# Altium footprint library SmartCoin.PcbLib: 18 footprints (part 1 of 2)
Each footprint in its own frame and in the unit in brackets; x right, y up, seen from the top. Pads: shape width x height; smd on the part's side, far side on the other; paste and mask are expansions set on the pad; w line width, h text height; cw(c..) or ccw(c..) is an arc to the next point about the centre after c.
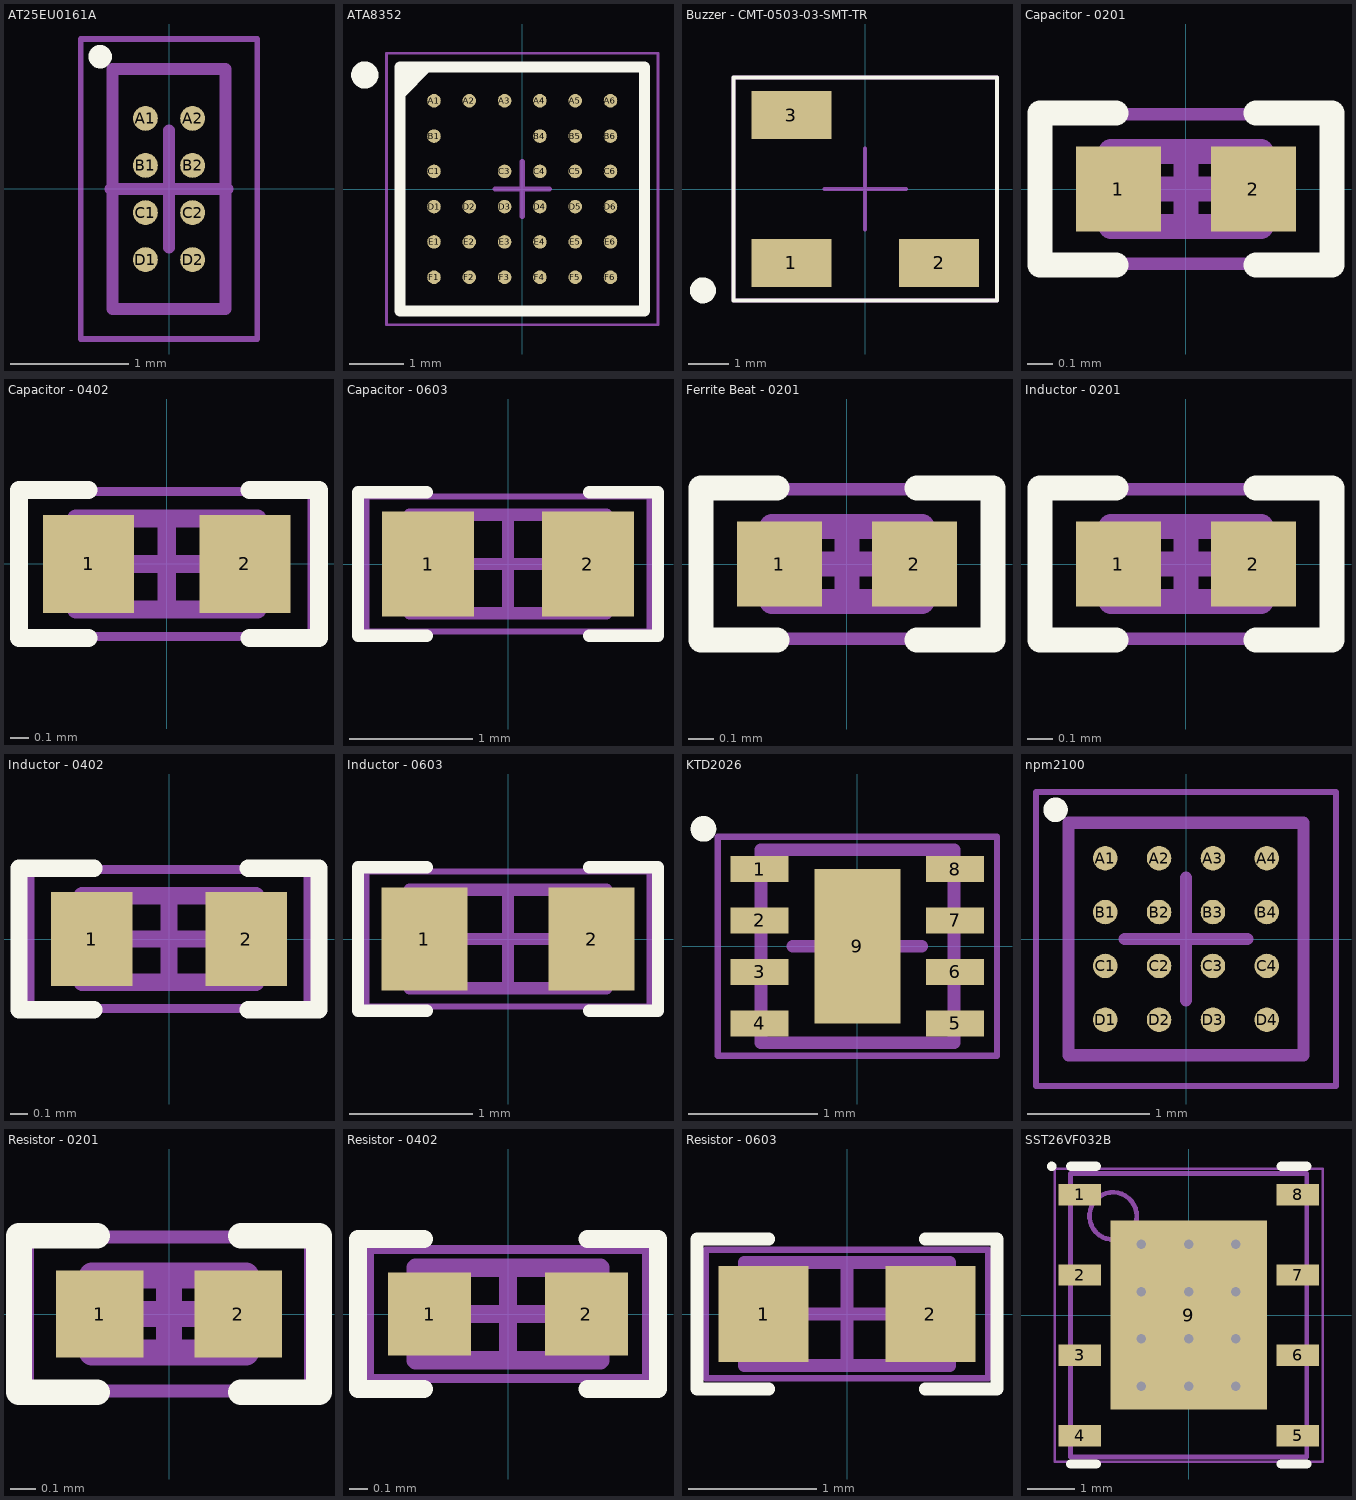
[diagram p0: the footprints below, top view; thin cyan lines are the x and y axes]

## AT25EU0161A [mm] "16-Mbit, Ultra-Low Energy Serial Flash Memory"
height 0.48
pads (8):
  round 0.21 smd: A1(-0.2,0.6) A2(0.2,0.6) B1(-0.2,0.2) B2(0.2,0.2) C1(-0.2,-0.2) C2(0.2,-0.2) D1(-0.2,-0.6) D2(0.2,-0.6)
Top Overlay:
  circle w0.1: c-0.585,1.125 r0.05
Top Courtyard:
  lines w0.05: -0.75,-1.275 0.75,-1.275 0.75,1.275 -0.75,1.275 -0.75,-1.275
  lines w0.1: -0.5,0 0.5,0 ; 0,-0.5 0,0.5
Mechanical 13:
  lines w0.1: -0.48,-1.02 0.48,-1.02 0.48,1.02 -0.48,1.02 -0.48,-1.02
3D body "AT25EU0161A.step": height 0.48, standoff 0, extent -0.48,-1.02 0.48,1.02

## ATA8352 [mm] "ATA8352 Transceiver"
height 1.1
pads (33):
  round 0.25 smd: A1(-1.625,1.625) A2(-0.975,1.625) A3(-0.325,1.625) A4(0.325,1.625) A5(0.975,1.625) A6(1.625,1.625) B1(-1.625,0.975) B4(0.325,0.975) B5(0.975,0.975) B6(1.625,0.975) C1(-1.625,0.325) C3(-0.325,0.325) C4(0.325,0.325) C5(0.975,0.325) C6(1.625,0.325) D1(-1.625,-0.325) D2(-0.975,-0.325) D3(-0.325,-0.325) D4(0.325,-0.325) D5(0.975,-0.325) D6(1.625,-0.325) E1(-1.625,-0.975) E2(-0.975,-0.975) E3(-0.325,-0.975) E4(0.325,-0.975) E5(0.975,-0.975) E6(1.625,-0.975) F1(-1.625,-1.625) F2(-0.975,-1.625) F3(-0.325,-1.625) F4(0.325,-1.625) F5(0.975,-1.625) F6(1.625,-1.625)
Top Overlay:
  circle w0.25: c-2.9,2.1 r0.125
  region: -1.75,2.25 -2.25,1.75 -2.25,2.25
  lines w0.2: -2.25,1.75 -1.75,2.25 ; -2.25,-2.25 -2.25,2.25 2.25,2.25 2.25,-2.25 -2.25,-2.25
Top Courtyard:
  lines w0.05: -2.5,-2.5 -2.5,2.5 2.5,2.5 2.5,-2.5 -2.5,-2.5
  lines w0.1: -0.5,0 0.5,0 ; 0,-0.5 0,0.5
Mechanical 13:
  lines w0.1: -2.25,-2.25 -2.25,2.25 2.25,2.25 2.25,-2.25 -2.25,-2.25
3D body: height 1.1, standoff 0.27, extent -2.25,-2.25 2.25,2.25

## Buzzer - CMT-0503-03-SMT-TR [mm]
pads (3):
  rect 2x1.2 smd: 1(-1.85,-1.85) 2(1.85,-1.85) 3(-1.85,1.85)
Top Overlay:
  circle w0.35: c-4.064,-2.54 r0.15
  lines w0.1: -3.302,-2.794 3.302,-2.794 3.302,2.794 -3.302,2.794 -3.302,-2.794
Top Courtyard:
  lines w0.1: -3.302,-2.794 3.302,-2.794 3.302,2.794 -3.302,2.794 -3.302,-2.794
Top Component Center:
  lines w0.1: -1.016,0 1.016,0 ; 0,-1.016 0,1.016
Top Component Outline:
  lines w0.1: -3.302,-2.794 3.302,-2.794 3.302,2.794 -3.302,2.794 -3.302,-2.794
3D body "Buzzer CMT-0503-03-SMT-TR v1.step": height 3.1, standoff 0, extent -2.5,-2.5 2.5,2.5

## Capacitor - 0201 [mm] "Chip Capacitor, 2-Leads, Body 0,60x0,30mm, IPC High Density"
height 0.3
pads (2):
  rect 0.34x0.34 smd mask+0.025: 1(-0.27,0) 2(0.27,0)
Top Overlay:
  lines w0.1: -0.279,-0.305 -0.584,-0.305 -0.584,0.305 -0.279,0.305 ; 0.279,-0.305 0.584,-0.305 0.584,0.305 0.279,0.305
Top Courtyard:
  lines w0.05: -0.6,-0.3 0.6,-0.3 0.6,0.3 -0.6,0.3 -0.6,-0.3
Top Component Center:
  lines w0.1: -0.15,0 0.15,0 ; 0,-0.15 0,0.15
Mechanical 13:
  lines w0.1: -0.3,-0.15 0.3,-0.15 0.3,0.15 -0.3,0.15 -0.3,-0.15
3D body "Capacitor - 0201.step": height 0.3, standoff 0, extent -0.3,-0.15 0.3,0.15

## Capacitor - 0402 [mm] "Chip Capacitor, 2-Leads, Body 1,00x0,50mm, IPC High Density"
height 0.3
pads (2):
  rect 0.5x0.54 smd mask+0.076: 1(-0.43,0) 2(0.43,0)
Top Overlay:
  lines w0.1: -0.432,-0.406 -0.813,-0.406 -0.813,0.406 -0.432,0.406 ; 0.457,-0.406 0.838,-0.406 0.838,0.406 0.457,0.406
Top Courtyard:
  lines w0.05: -0.8,-0.4 -0.8,0.4 0.8,0.4 0.8,-0.4 -0.8,-0.4
Top Component Center:
  lines w0.1: -0.25,0 0.25,0 ; 0,-0.25 0,0.25
Mechanical 13:
  lines w0.1: -0.5,-0.25 -0.5,0.25 0.5,0.25 0.5,-0.25 -0.5,-0.25
3D body "Capacitor - 0402.step": height 0.3, standoff 0, extent -0.5,-0.25 0.5,0.25

## Capacitor - 0603 [mm] "Chip Capacitor, 2-Leads, Body 1,60x0,80mm, IPC High Density"
height 0.5
pads (2):
  rect 0.75x0.85 smd: 1(-0.65,0) 2(0.65,0)
Top Overlay:
  lines w0.1: -0.66,-0.584 -1.219,-0.584 -1.219,0.584 -0.66,0.584 ; 0.66,-0.584 1.219,-0.584 1.219,0.584 0.66,0.584
Top Courtyard:
  lines w0.05: -1.15,-0.55 1.15,-0.55 1.15,0.55 -1.15,0.55 -1.15,-0.55
Top Component Center:
  lines w0.1: -0.4,0 0.4,0 ; 0,-0.4 0,0.4
Mechanical 13:
  lines w0.1: -0.8,-0.4 0.8,-0.4 0.8,0.4 -0.8,0.4 -0.8,-0.4
3D body "Capacitor - 0603.step": height 0.5, standoff 0, extent -0.8,-0.4 0.8,0.4

## Ferrite Beat - 0201 [mm] "Chip Inductor, 2-Leads, Body 0,60x0,30mm, IPC High Density"
height 0.3
pads (2):
  rect 0.34x0.34 smd mask+0.025: 1(-0.27,0) 2(0.27,0)
Top Overlay:
  lines w0.1: -0.279,-0.305 -0.584,-0.305 -0.584,0.305 -0.279,0.305 ; 0.279,-0.305 0.584,-0.305 0.584,0.305 0.279,0.305
Top Courtyard:
  lines w0.05: -0.6,-0.3 -0.6,0.3 0.6,0.3 0.6,-0.3 -0.6,-0.3
Top Component Center:
  lines w0.1: -0.15,0 0.15,0 ; 0,-0.15 0,0.15
Mechanical 13:
  lines w0.1: -0.3,-0.15 -0.3,0.15 0.3,0.15 0.3,-0.15 -0.3,-0.15
3D body "Inductor - 0201.step": height 0.3, standoff 0, extent -0.3,-0.15 0.3,0.15

## Inductor - 0201 [mm] "Chip Inductor, 2-Leads, Body 0,60x0,30mm, IPC High Density"
height 0.3
pads (2):
  rect 0.34x0.34 smd mask+0.025: 1(-0.27,0) 2(0.27,0)
Top Overlay:
  lines w0.1: -0.279,-0.305 -0.584,-0.305 -0.584,0.305 -0.279,0.305 ; 0.279,-0.305 0.584,-0.305 0.584,0.305 0.279,0.305
Top Courtyard:
  lines w0.05: -0.6,-0.3 -0.6,0.3 0.6,0.3 0.6,-0.3 -0.6,-0.3
Top Component Center:
  lines w0.1: -0.15,0 0.15,0 ; 0,-0.15 0,0.15
Mechanical 13:
  lines w0.1: -0.3,-0.15 -0.3,0.15 0.3,0.15 0.3,-0.15 -0.3,-0.15
3D body "Inductor - 0201.step": height 0.3, standoff 0, extent -0.3,-0.15 0.3,0.15

## Inductor - 0402 [mm] "Chip Inductor, 2-Leads, Body 1,00x0,50mm, IPC High Density"
height 0.3
pads (2):
  rect 0.47x0.54 smd mask+0.076: 1(-0.445,0) 2(0.445,0)
Top Overlay:
  lines w0.1: -0.432,-0.406 -0.864,-0.406 -0.864,0.406 -0.432,0.406 ; 0.457,-0.406 0.864,-0.406 0.864,0.406 0.457,0.406
Top Courtyard:
  lines w0.05: -0.8,-0.4 -0.8,0.4 0.8,0.4 0.8,-0.4 -0.8,-0.4
Top Component Center:
  lines w0.1: -0.25,0 0.25,0 ; 0,-0.25 0,0.25
Mechanical 13:
  lines w0.1: -0.5,-0.25 -0.5,0.25 0.5,0.25 0.5,-0.25 -0.5,-0.25
3D body "Inductor - 0402.step": height 0.3, standoff 0, extent -0.5,-0.25 0.5,0.25

## Inductor - 0603 [mm] "Chip Inductor, 2-Leads, Body 1,60x0,80mm, IPC High Density"
height 0.5
pads (2):
  rect 0.7x0.84 smd: 1(-0.68,0) 2(0.68,0)
Top Overlay:
  lines w0.1: -0.66,-0.584 -1.219,-0.584 -1.219,0.584 -0.66,0.584 ; 0.66,-0.584 1.219,-0.584 1.219,0.584 0.66,0.584
Top Courtyard:
  lines w0.05: -1.15,-0.55 1.15,-0.55 1.15,0.55 -1.15,0.55 -1.15,-0.55
Top Component Center:
  lines w0.1: -0.4,0 0.4,0 ; 0,-0.4 0,0.4
Mechanical 13:
  lines w0.1: -0.8,-0.4 0.8,-0.4 0.8,0.4 -0.8,0.4 -0.8,-0.4
3D body "Inductor - 0603.step": height 0.5, standoff 0, extent -0.8,-0.4 0.8,0.4

## KTD2026 [mm] "3-CHANNEL Rgb Led Driver With I2C"
height 0.55
pads (9):
  rect 0.45x0.2 smd: 1(-0.76,0.6) 2(-0.76,0.2) 3(-0.76,-0.2) 4(-0.76,-0.6) 5(0.76,-0.6) 6(0.76,-0.2) 7(0.76,0.2) 8(0.76,0.6)
  rect 0.67x1.2 smd: 9(0,0)
Top Overlay:
  circle w0.1: c-1.197,0.912 r0.05
Top Courtyard:
  lines w0.05: -1.085,-0.85 1.085,-0.85 1.085,0.85 -1.085,0.85 -1.085,-0.85
Top Component Center:
  lines w0.1: -0.5,0 0.5,0 ; 0,-0.5 0,0.5
Mechanical 13:
  lines w0.1: -0.75,-0.75 0.75,-0.75 0.75,0.75 -0.75,0.75 -0.75,-0.75
3D body "KTD2026.step": height 0.55, standoff 0, extent -0.77,-0.75 0.77,0.75

## npm2100 [mm] "Power Management IC (PMIC)"
height 0.53
pads (16):
  round 0.2 smd: A1(-0.66,0.66) A2(-0.22,0.66) A3(0.22,0.66) A4(0.66,0.66) B1(-0.66,0.22) B2(-0.22,0.22) B3(0.22,0.22) B4(0.66,0.22) C1(-0.66,-0.22) C2(-0.22,-0.22) C3(0.22,-0.22) C4(0.66,-0.22) D1(-0.66,-0.66) D2(-0.22,-0.66) D3(0.22,-0.66) D4(0.66,-0.66)
Top Overlay:
  circle w0.1: c-1.065,1.055 r0.05
Top Courtyard:
  lines w0.05: -1.225,-1.2 -1.225,1.2 1.225,1.2 1.225,-1.2 -1.225,-1.2
Top Component Center:
  lines w0.1: -0.5,0 0.5,0 ; 0,-0.5 0,0.5
Mechanical 13:
  lines w0.1: -0.96,-0.95 -0.96,0.95 0.96,0.95 0.96,-0.95 -0.96,-0.95
3D body "npm2100.step": height 0.52, standoff 0, extent -0.96,-0.95 0.96,0.95

## Resistor - 0201 [mm] "Chip Resistor, 2-Leads, Body 0,60x0,30mm, IPC High Density"
height 0.3
pads (2):
  rect 0.34x0.34 smd mask+0.025: 1(-0.27,0) 2(0.27,0)
Top Overlay:
  lines w0.1: -0.279,-0.305 -0.584,-0.305 -0.584,0.305 -0.279,0.305 ; 0.279,-0.305 0.584,-0.305 0.584,0.305 0.279,0.305
Top Courtyard:
  lines w0.05: -0.55,-0.3 -0.55,0.3 0.55,0.3 0.55,-0.3 -0.55,-0.3
Top Component Center:
  lines w0.1: -0.15,0 0.15,0 ; 0,-0.15 0,0.15
Mechanical 13:
  lines w0.1: -0.3,-0.15 -0.3,0.15 0.3,0.15 0.3,-0.15 -0.3,-0.15
3D body "Resistor - 0201.step": height 0.3, standoff 0, extent -0.3,-0.15 0.3,0.15

## Resistor - 0402 [mm] "Chip Resistor, 2-Leads, Body 1,00x0,50mm, IPC High Density"
height 0.3
pads (2):
  rect 0.45x0.45 smd mask+0.076: 1(-0.425,0) 2(0.425,0)
Top Overlay:
  lines w0.1: -0.457,-0.406 -0.813,-0.406 -0.813,0.406 -0.457,0.406 ; 0.432,-0.406 0.813,-0.406 0.813,0.406 0.432,0.406
Top Courtyard:
  lines w0.05: -0.75,-0.35 0.75,-0.35 0.75,0.35 -0.75,0.35 -0.75,-0.35
Top Component Center:
  lines w0.1: -0.25,0 0.25,0 ; 0,-0.25 0,0.25
Mechanical 13:
  lines w0.1: -0.5,-0.25 0.5,-0.25 0.5,0.25 -0.5,0.25 -0.5,-0.25
3D body "Resistor - 0402.step": height 0.3, standoff 0, extent -0.5,-0.25 0.5,0.25

## Resistor - 0603 [mm] "Chip Resistor, 2-Leads, Body 1,60x0,80mm, IPC High Density"
height 0.5
pads (2):
  rect 0.7x0.75 smd: 1(-0.65,0) 2(0.65,0)
Top Overlay:
  lines w0.1: -0.61,-0.584 -1.168,-0.584 -1.168,0.584 -0.61,0.584 ; 0.61,-0.584 1.168,-0.584 1.168,0.584 0.61,0.584
Top Courtyard:
  lines w0.05: -1.1,-0.5 1.1,-0.5 1.1,0.5 -1.1,0.5 -1.1,-0.5
Top Component Center:
  lines w0.1: -0.4,0 0.4,0 ; 0,-0.4 0,0.4
Mechanical 13:
  lines w0.1: -0.8,-0.4 0.8,-0.4 0.8,0.4 -0.8,0.4 -0.8,-0.4
3D body "Resistor - 0603.step": height 0.5, standoff 0, extent -0.8,-0.4 0.8,0.4

## SST26VF032B [mm] "32-Mbit Serial Quad I/O™ (SQI™) Flash Memory"
height 0.8
pads (9):
  rect 0.9x0.45 smd: 1(-2.31,2.55) 2(-2.31,0.85) 3(-2.31,-0.85) 4(-2.31,-2.55) 5(2.31,-2.55) 6(2.31,-0.85) 7(2.31,0.85) 8(2.31,2.55)
  rect 3.32x4 smd paste-1.66: 9(0,0)
via 1,-1.5 diameter 0.5 hole 0.2
via 0,-1.5 diameter 0.5 hole 0.2
via -1,-1.5 diameter 0.5 hole 0.2
via 1,-0.5 diameter 0.5 hole 0.2
via 0,-0.5 diameter 0.5 hole 0.2
via -1,-0.5 diameter 0.5 hole 0.2
via 1,0.5 diameter 0.5 hole 0.2
via 0,0.5 diameter 0.5 hole 0.2
via -1,0.5 diameter 0.5 hole 0.2
via 1,1.5 diameter 0.5 hole 0.2
via 0,1.5 diameter 0.5 hole 0.2
via -1,1.5 diameter 0.5 hole 0.2
Top Overlay:
  circle w0.1: c-2.9,3.15 r0.05
  lines w0.2: -2.5,-3.15 -1.96,-3.15 ; -2.5,3.15 -1.96,3.15 ; 1.96,-3.15 2.5,-3.15 ; 1.96,3.15 2.5,3.15
Top Paste:
  rectangle: 0.655,-1.895 1.565,-0.765
  rectangle: 0.655,-0.565 1.565,0.565
  rectangle: 0.655,0.765 1.565,1.895
  rectangle: -0.455,-1.895 0.455,-0.765
  rectangle: -0.455,-0.565 0.455,0.565
  rectangle: -0.455,0.765 0.455,1.895
  rectangle: -1.565,-1.895 -0.655,-0.765
  rectangle: -1.565,-0.565 -0.655,0.565
  rectangle: -1.565,0.765 -0.655,1.895
Top Courtyard:
  lines w0.05: -2.835,-3.1 2.835,-3.1 2.835,3.1 -2.835,3.1 -2.835,-3.1
Top Component Center:
  lines w0.1: -0.5,0 0.5,0 ; 0,-0.5 0,0.5
Mechanical 13:
  circle w0.1: c-1.6,2.1 r0.5
  lines w0.1: -2.5,-3 2.5,-3 2.5,3 -2.5,3 -2.5,-3
3D body "SST26VF032B.step": height 0.8, standoff 0, extent -2.52,-3 2.52,3